# Altium footprint library H-Bridge_Test.PcbLib: 4 footprints
Each footprint in its own frame and in the unit in brackets; x right, y up, seen from the top. Pads: shape width x height; smd on the part's side, far side on the other; paste and mask are expansions set on the pad; w line width, h text height; cw(c..) or ccw(c..) is an arc to the next point about the centre after c.
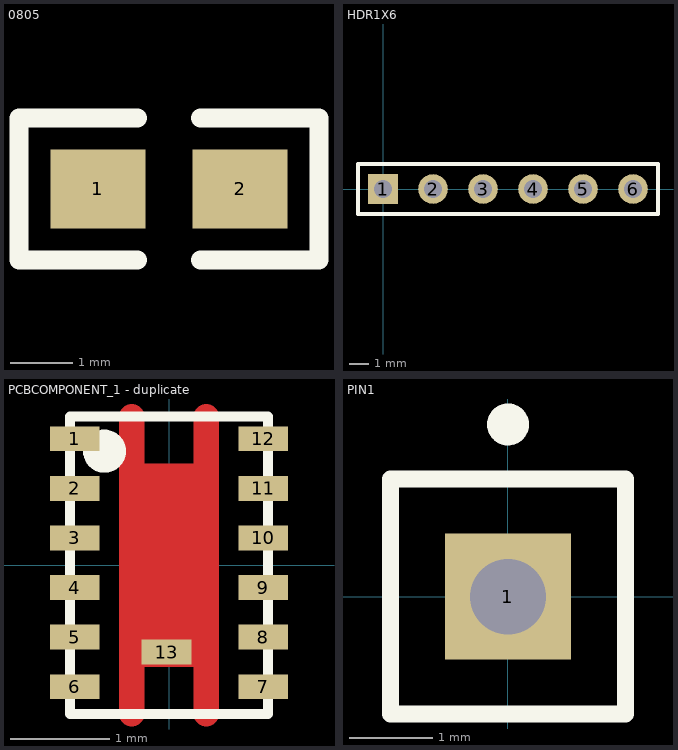
[diagram p0: the footprints below, top view; thin cyan lines are the x and y axes]

## 0805 [mil]
pads (2):
  rect 60x50 smd: 1(-48580,-48510) 2(-48490,-48510)
Top Overlay:
  lines w12: -48555,-48555 -48630,-48555 -48630,-48465 -48555,-48465 ; -48515,-48555 -48440,-48555 -48440,-48465 -48515,-48465

## HDR1X6 [mm]
pads (6):
  rect 1.5x1.5 hole 0.9: 1(0,0)
  round 1.5 hole 0.9: 2(2.54,0) 3(5.08,0) 4(7.62,0) 5(10.16,0) 6(12.7,0)
Top Overlay:
  lines w0.2: -1.27,-1.27 13.97,-1.27 13.97,1.27 -1.27,1.27 -1.27,-1.27

## PCBCOMPONENT_1 - duplicate [mm]
pads (13):
  rect 0.5x0.25 smd: 1(-0.95,1.275) 2(-0.95,0.775) 3(-0.95,0.275) 4(-0.95,-0.225) 5(-0.95,-0.725) 6(-0.95,-1.225) 7(0.95,-1.225) 8(0.95,-0.725) 9(0.95,-0.225) 10(0.95,0.275) 11(0.95,0.775) 12(0.95,1.275) 13(-0.025,-0.875)
Top Layer:
  rectangle: -0.325,-0.9 0.325,0.9
  lines w0.254: -0.375,-1.5 -0.375,1.5 ; -0.375,-0.9 0.375,-0.9 ; -0.325,0.9 0.25,0.9 ; 0.375,-1.5 0.375,1.5
Top Overlay:
  circle w0.254: c-0.65,1.15 r0.09
  lines w0.1: -1,-1.5 1,-1.5 1,1.5 -1,1.5 -1,-1.5

## PIN1 [mm]
pads (1):
  rect 1.5x1.5 hole 0.9: 1(0,0)
Top Overlay:
  circle w0.25: c0,2.05 r0.125
  lines w0.2: -1.4,-1.4 -1.4,1.4 1.4,1.4 1.4,-1.4 -1.4,-1.4